# EAGLE library part 691401700024 (library Wurth_Elektronik_Electromechanic_Terminal_Blocks_Connectors_rev16b)
WR-TBL Terminal block - serie 401 5,0mm - Spring clamp/Screw less - Vertical entry - 24p Code:Con_TBL_Screwless_5.00_6914017000xx_691401700024 Created 2014-12-22, aslant tao 2014 (C) Würth Elektronik
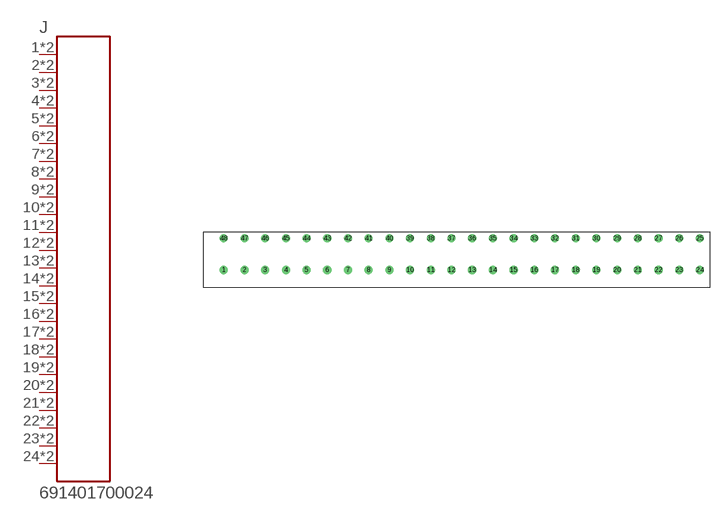
[diagram p252: symbol with the pads of 691401700024; footprint 691401700024]

Designator prefix J

## 691401700024  [691401700024]
1  1  pas
2  2  pas
3  3  pas
4  4  pas
5  5  pas
6  6  pas
7  7  pas
8  8  pas
9  9  pas
10  10  pas
11  11  pas
12  12  pas
13  13  pas
14  14  pas
15  15  pas
16  16  pas
17  17  pas
18  18  pas
19  19  pas
20  20  pas
21  21  pas
22  22  pas
23  23  pas
24  24  pas
25  24  pas
26  23  pas
27  22  pas
28  21  pas
29  20  pas
30  19  pas
31  18  pas
32  17  pas
33  16  pas
34  15  pas
35  14  pas
36  13  pas
37  12  pas
38  11  pas
39  10  pas
40  9  pas
41  8  pas
42  7  pas
43  6  pas
44  5  pas
45  4  pas
46  3  pas
47  2  pas
48  1  pas

## Footprint 691401700024 (pad centres in mm)
WR-TBL Serie 401 - 5.0mm Screwless Vertikal Entry - 2 mm2 Wires, 24 Pins
drill 1.3: 1 -5,0; 2 0,0; 3 5,0; 4 10,0; 5 15,0; 6 20,0; 7 25,0; 8 30,0; 9 35,0; 10 40,0; 11 45,0; 12 50,0; 13 55,0; 14 60,0; 15 65,0; 16 70,0; 17 75,0; 18 80,0; 19 85,0; 20 90,0; 21 95,0; 22 100,0; 23 105,0; 24 110,0; 25 110,7.62; 26 105,7.62; 27 100,7.62; 28 95,7.62; 29 90,7.62; 30 85,7.62; 31 80,7.62; 32 75,7.62; 33 70,7.62; 34 65,7.62; 35 60,7.62; 36 55,7.62; 37 50,7.62; 38 45,7.62; 39 40,7.62; 40 35,7.62; 41 30,7.62; 42 25,7.62; 43 20,7.62; 44 15,7.62; 45 10,7.62; 46 5,7.62; 47 0,7.62; 48 -5,7.62